# Altium schematic symbol library B0505S-1W.SchLib: 1 symbol
Pins are listed as number, name and electrical type; pins without a type are passive.

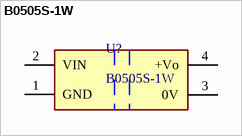
[diagram p0: symbol B0505S-1W]

## B0505S-1W
designator U?
footprint B0505S-1W
pins: 1 GND (power), 2 VIN (power), 3 0V (power), 4 +Vo (power)